# EAGLE library part SEANVOISEN_LM324 (library ds8)
LM324 Quad Op-amp
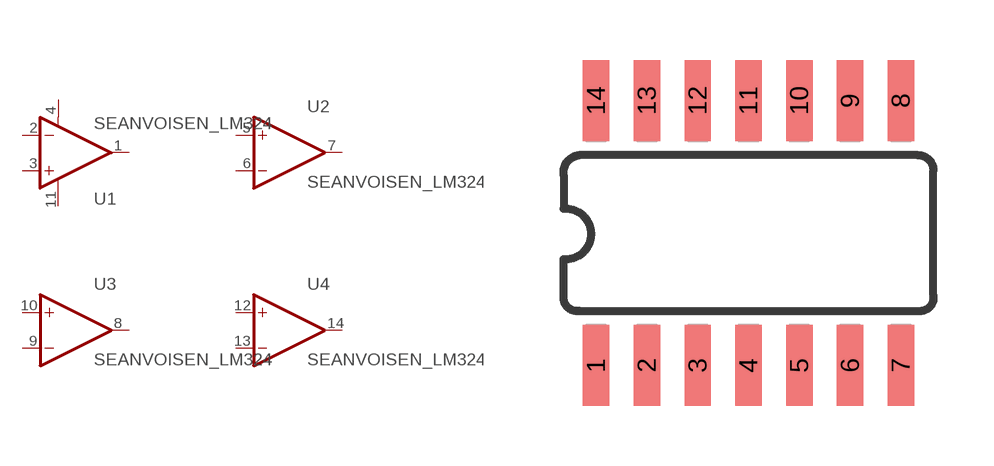
[diagram p2: symbol with the pads of SEANVOISEN_SOIC-14; footprint SEANVOISEN_SOIC-14]

Designator prefix -; gates 1=SEANVOISEN_OP-AMP+- 2=SEANVOISEN_OP-AMP 3=SEANVOISEN_OP-AMP 4=SEANVOISEN_OP-AMP

## SEANVOISEN_LM324  [SEANVOISEN_SOIC-14]
1  1:OUT  out
2  1:-IN  in
3  1:+IN  in
4  1:V+  pwr
5  2:+IN  in
6  2:-IN  in
7  2:OUT  out
8  3:OUT  out
9  3:-IN  in
10  3:+IN  in
11  1:V-  pwr
12  4:+IN  in
13  4:-IN  in
14  4:OUT  out

## Footprint SEANVOISEN_SOIC-14 (pad centres in mm)
smd 0.66 x 2.032: 1 -4.445,-3.315; 2 -3.175,-3.315; 3 -1.905,-3.315; 4 -0.635,-3.315; 5 0.635,-3.315; 6 1.905,-3.315; 7 3.175,-3.315; 8 3.175,3.315; 9 1.905,3.315; 10 0.635,3.315; 11 -0.635,3.315; 12 -1.905,3.315; 13 -3.175,3.315; 14 -4.445,3.315